# Altium schematic symbol library AD623AN.SchLib: 1 symbol
Pins are listed as number, name and electrical type; pins without a type are passive.

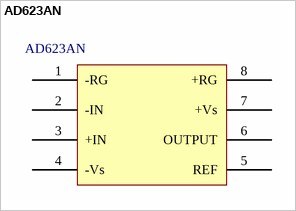
[diagram p0: symbol AD623AN]

## AD623AN
designator AD623AN  (value not drawn)
footprint AD623AN
pins: 1 -RG, 2 -IN , 3 +IN , 4 -Vs, 5 REF, 6 OUTPUT, 7 +Vs, 8 +RG